# Altium schematic symbol library SCH - CONNECTORS - AMPHENOL - 031-5431-10RFX.Schlib: 1 symbol
Pins are listed as number, name and electrical type; pins without a type are passive.

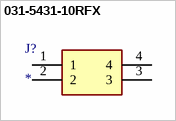
[diagram p0: symbol 031-5431-10RFX]

## 031-5431-10RFX
designator J?
Connector
pins: 1, 2, 3, 4